# Altium footprint library Cap_TDK_CGA2B2C0G2A151J050BE_150pF.PcbLib: 1 footprints
Each footprint in its own frame and in the unit in brackets; x right, y up, seen from the top. Pads: shape width x height; smd on the part's side, far side on the other; paste and mask are expansions set on the pad; w line width, h text height; cw(c..) or ccw(c..) is an arc to the next point about the centre after c.
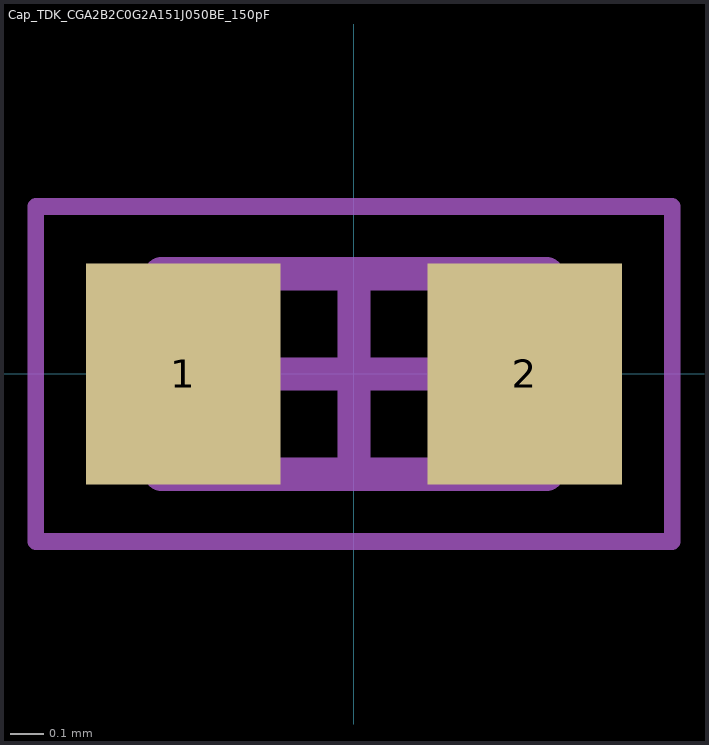
[diagram p0: the footprint, top view; thin cyan lines are the x and y axes]

## Cap_TDK_CGA2B2C0G2A151J050BE_150pF [mm]
height 0.6
pads (2):
  rect 0.58x0.66 smd: 1(-0.51,0) 2(0.51,0)
Mechanical 13:
  lines w0.1: -0.575,-0.3 -0.575,0.3 0.575,0.3 0.575,-0.3 -0.575,-0.3
Mechanical 15:
  lines w0.05: -0.95,-0.5 -0.95,0.5 0.95,0.5 0.95,-0.5 -0.95,-0.5
  lines w0.1: -0.3,0 0.3,0 ; 0,-0.3 0,0.3
3D body "Chip2PinSM127P600-8N.step": height 0.6, standoff 0, extent -0.575,-0.3 0.575,0.3